# Altium integrated library SCD30.IntLib: 1 symbol
Pins are listed as number, name and electrical type; pins without a type are passive.

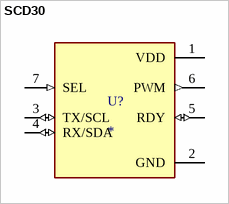
[diagram p0: symbol SCD30]

## SCD30
designator U?
SCD30 Series 5.5 V 75 mA Â±3% Carbon Dioxide (CO2) Sensor Module; Package: None; Availability: Unavailable; MP: SCD30; Value: *; Price: None
footprint MODULE_SCD30
pins: 1 VDD (power), 2 GND (power), 3 TX/SCL (io), 4 RX/SDA (io), 5 RDY (io), 6 PWM (out), 7 SEL (in)